# EAGLE library part FIREBEETLE-ESP32-DFR0478 (library Eagle_UOF_Lib)
Development Boards & Kits - Wireless FireBeetle ESP32 IOT MCU Source: Datasheet <https://github.com/Robert-MARKII/Document/blob/master/FireBeetle Board-ESP32 User Manual update.pdf>
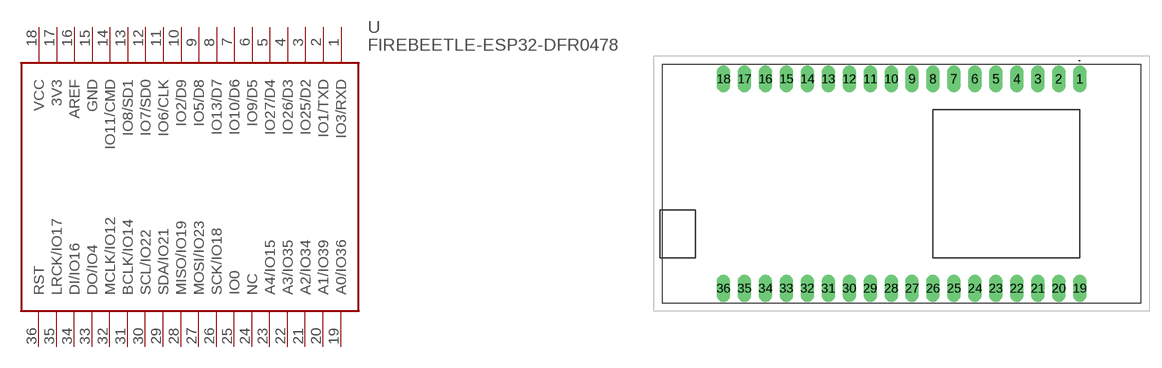
[diagram p3: symbol with the pads of FIREBEETLE_ESP32; footprint FIREBEETLE_ESP32]

Designator prefix U

## FIREBEETLE-ESP32-DFR0478 (DESCRIPTION: Development Boards & Kits - Wireless FireBeetle ESP32 IOT MCU; HEIGHT: mm; MANUFACTURER_NAME: DFRobot; MANUFACTURER_PART_NUMBER: DFR0478; MOUSER_PART_NUMBER: 426-DFR0478; MOUSER_PRICE-STOCK: https://www.mouser.co.uk/ProductDetail/DFRobot/DFR0478?qs=EU6FO9ffTwc%252BR65h2NUGQw%3D%3D)  [FIREBEETLE_ESP32]
1  IO3/RXD
2  IO1/TXD
3  IO25/D2
4  IO26/D3
5  IO27/D4
6  IO9/D5
7  IO10/D6
8  IO13/D7
9  IO5/D8
10  IO2/D9
11  IO6/CLK
12  IO7/SD0
13  IO8/SD1
14  IO11/CMD
15  GND
16  AREF
17  3V3
18  VCC
19  A0/IO36
20  A1/IO39
21  A2/IO34
22  A3/IO35
23  A4/IO15
24  NC  nc
25  IO0
26  SCK/IO18
27  MOSI/IO23
28  MISO/IO19
29  SDA/IO21
30  SCL/IO22
31  BCLK/IO14
32  MCLK/IO12
33  DO/IO4
34  DI/IO16
35  LRCK/IO17
36  RST

## Footprint FIREBEETLE_ESP32 (pad centres in mm)
FireBeetle ESP32
drill 1.11 pad 1.651 long: 1 25.4,12.7; 2 22.86,12.7; 18 -17.78,12.7
drill 1.11 pad 1.665 long: 3 20.32,12.7; 4 17.78,12.7; 5 15.24,12.7; 6 12.7,12.7; 7 10.16,12.7; 8 7.62,12.7; 9 5.08,12.7; 10 2.54,12.7; 11 0,12.7; 12 -2.54,12.7; 13 -5.08,12.7; 14 -7.62,12.7; 15 -10.16,12.7; 16 -12.7,12.7; 17 -15.24,12.7; 19 25.4,-12.7; 20 22.86,-12.7; 21 20.32,-12.7; 22 17.78,-12.7; 23 15.24,-12.7; 24 12.7,-12.7; 25 10.16,-12.7; 26 7.62,-12.7; 27 5.08,-12.7; 28 2.54,-12.7; 29 0,-12.7; 30 -2.54,-12.7; 31 -5.08,-12.7; 32 -7.62,-12.7; 33 -10.16,-12.7; 34 -12.7,-12.7; 35 -15.24,-12.7; 36 -17.78,-12.7